# Altium schematic symbol library Header-2P.SchLib: 1 symbol
Pins are listed as number, name and electrical type; pins without a type are passive.

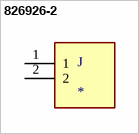
[diagram p0: symbol 826926-2]

## 826926-2
designator J
Pin header; pin strips; AMPMODU MOD II; male; PIN: 2; straight; MP: 826926-2; Product_Type: Connector; Centerline_Pitch: 2.54 mm[.1 in]; MF: TE Connectivity; Number_of_Positions: 2; Availability: Unavailable; Value: *; Package: None; EU_RoHS_Compliance: Compliant; Price: None
footprint TE_826926-2
pins: 1, 2